# EAGLE library part 182-015-113R (library con-subd)
CONN DB15 MALE .318" R/A NICKEL
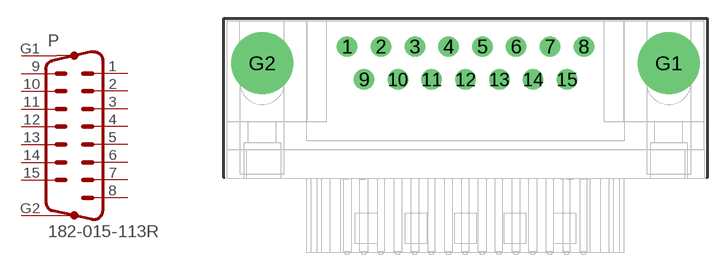
[diagram p88: symbol with the pads of 182-015-113R; footprint 182-015-113R]

Designator prefix P

## 182-015-113R  [182-015-113R]
1  1  pas
2  2  pas
3  3  pas
4  4  pas
5  5  pas
6  6  pas
7  7  pas
8  8  pas
9  9  pas
10  10  pas
11  11  pas
12  12  pas
13  13  pas
14  14  pas
15  15  pas
G1  G1  pas
G2  G2  pas

## Footprint 182-015-113R (pad centres in mm)
NORCOMP Right Angle D-Sub Connector MALE 182 Economy Series (.318" Footprint)
drill 1.016 pad 1.676: 1 -9.695,1.35; 2 -6.925,1.35; 3 -4.155,1.35; 4 -1.385,1.35; 5 1.385,1.35; 6 4.155,1.35; 7 6.925,1.35; 8 9.695,1.35; 9 -8.31,-1.35; 10 -5.54,-1.35; 11 -2.77,-1.35; 12 0,-1.35; 13 2.77,-1.35; 14 5.54,-1.35; 15 8.31,-1.35
drill 3.251 pad 5.08: G1 16.66,0; G2 -16.66,0